# EAGLE library part CC3000 (library ti)
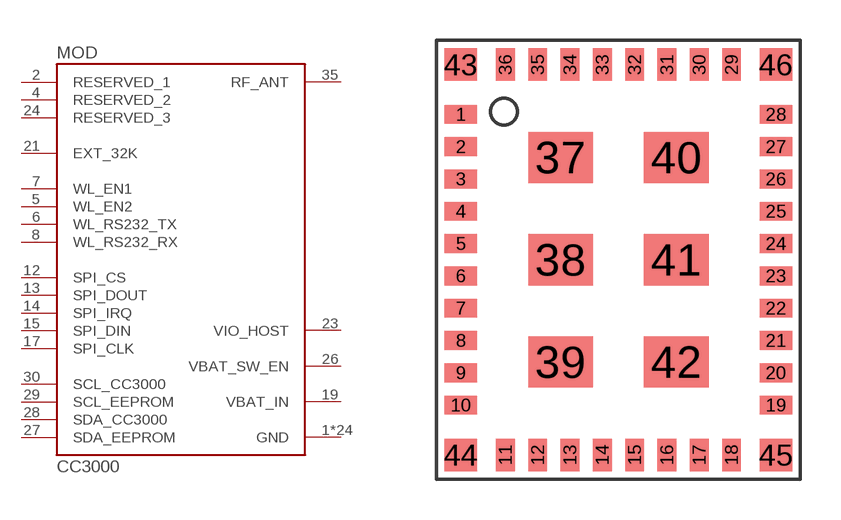
[diagram p0: symbol with the pads of CC3000; footprint CC3000]

Designator prefix MOD

## CC3000  [CC3000]
1  GND
2  RESERVED_1
4  RESERVED_2
5  WL_EN2
6  WL_RS232_TX
7  WL_EN1
8  WL_RS232_RX
9  GND
10  GND
11  GND
12  SPI_CS
13  SPI_DOUT
14  SPI_IRQ
15  SPI_DIN
16  GND
17  SPI_CLK
18  GND
19  VBAT_IN
20  GND
21  EXT_32K
22  GND
23  VIO_HOST
24  RESERVED_3
25  GND
26  VBAT_SW_EN
27  SDA_EEPROM
28  SDA_CC3000
29  SCL_EEPROM
30  SCL_CC3000
31  GND
32  GND
33  GND
34  GND
35  RF_ANT
36  GND
37  GND
38  GND
39  GND
40  GND
41  GND
42  GND
43  GND
44  GND
45  GND
46  GND

## Footprint CC3000 (pad centres in mm)
smd 1.2 x 0.7: 1 -5.85,5.4; 2 -5.85,4.2; 3 -5.85,3; 4 -5.85,1.8; 5 -5.85,0.6; 6 -5.85,-0.6; 7 -5.85,-1.8; 8 -5.85,-3; 9 -5.85,-4.2; 10 -5.85,-5.4; 19 5.85,-5.4; 20 5.85,-4.2; 21 5.85,-3; 22 5.85,-1.8; 23 5.85,-0.6; 24 5.85,0.6; 25 5.85,1.8; 26 5.85,3; 27 5.85,4.2; 28 5.85,5.4
smd 0.7 x 1.2: 11 -4.2,-7.25; 12 -3,-7.25; 13 -1.8,-7.25; 14 -0.6,-7.25; 15 0.6,-7.25; 16 1.8,-7.25; 17 3,-7.25; 18 4.2,-7.25; 29 4.2,7.25; 30 3,7.25; 31 1.8,7.25; 32 0.6,7.25; 33 -0.6,7.25; 34 -1.8,7.25; 35 -3,7.25; 36 -4.2,7.25
smd 2.4 x 1.9: 37 -2.15,3.8; 38 -2.15,0; 39 -2.15,-3.8; 40 2.15,3.8; 41 2.15,0; 42 2.15,-3.8
smd 1.2 x 1.2: 43 -5.85,7.25; 44 -5.85,-7.25; 45 5.85,-7.25; 46 5.85,7.25